# Altium schematic symbol library M20-7820846.SchLib: 1 symbol
Pins are listed as number, name and electrical type; pins without a type are passive.

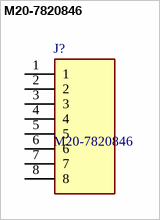
[diagram p0: symbol M20-7820846]

## M20-7820846
designator J?
Headers & Wire Housings 8 PIN SIL VERTICAL SOCKET TIN; Manufacturer_Name: Harwin; Geometry.Height: 8.65mm; Manufacturer_Part_Number: M20-7820846; Mouser Part Number: 855-M20-7820846; Mouser Price/Stock: https://www.mouser.co.uk/ProductDetail/Harwin/M20-7820846?qs=WS5Jv%252B%252Bx1qVyh4iJa%252BIF%252BA%3D%3D; Arrow Part Number: *; Arrow Price/Stock: *; Datasheet Link: https://componentsearchengine.com/Datasheets/1/M20-7820846.pdf
footprint SHDR8W70P0X254_1X8_2072X250X865P
pins: 1, 2, 3, 4, 5, 6, 7, 8